# Altium schematic symbol library EL-sense_Fuse.SchLib: 5 symbols
Pins are listed as number, name and electrical type; pins without a type are passive.

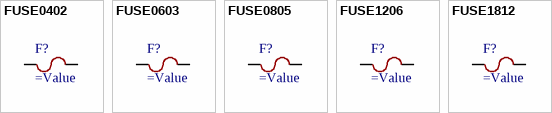
[diagram p0: symbols FUSE0402 to FUSE1812]

## FUSE0402
designator F?
pins: 1, 2

## FUSE0603
designator F?
pins: 1, 2

## FUSE0805
designator F?
pins: 1, 2

## FUSE1206
designator F?
pins: 1, 2

## FUSE1812
designator F?
pins: 1, 2